# Altium schematic symbol library TK2 Family.SchLib: 1 symbol
Pins are listed as number, name and electrical type; pins without a type are passive.

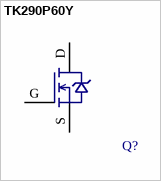
[diagram p0: symbol TK290P60Y]

## TK290P60Y
designator Q?  (value not drawn)
N-Channel 600V 11.5A (Tc) 100W (Tc) Surface Mount DPAK; Manufacturer 1: Toshiba Semiconductor and Storage; Manufacturer 1 PN: TK290P60Y,RQ; ComponentLink1Description: Datasheet; ComponentLink1URL: file:///C:/Users/Smarti9%20-%20Lucas/Downloads/TK290P60Y_datasheet_en_20161115%20(3).pdf; Digikey PN: TK290P60YRQCT-ND; Voltage: 600V; Current: 11.5A
footprint TK290P60Y (N-Channel 600V 11.5A (Tc) 100W (Tc) Surface Mount DPAK)
pins: D (power), G (power), S (power)